# Altium schematic symbol library LAN8720.SchLib: 1 symbol
Pins are listed as number, name and electrical type; pins without a type are passive.

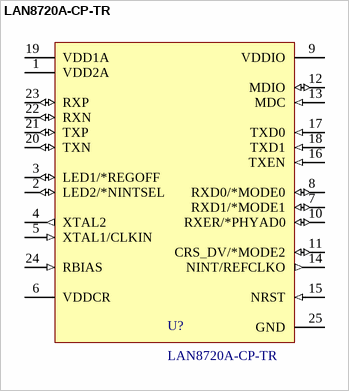
[diagram p0: symbol LAN8720A-CP-TR]

## LAN8720A-CP-TR
designator U?
IC ETH TXRX FULL 2/2 24SQFN; Manufacturer_Name: Microchip; Copyright: Copyright (C) 2026 Ultra Librarian. All rights reserved.; Manufacturer_Part_Number: LAN8720A-CP-TR; RefDes: RefDes; Type: Type
footprint QFN24-6X6_MC_MCH
pins: 1 VDD2A (power), 2 LED2/*NINTSEL (io), 3 LED1/*REGOFF (io), 4 XTAL2 (out), 5 XTAL1/CLKIN (in), 6 VDDCR (power), 7 RXD1/*MODE1 (io), 8 RXD0/*MODE0 (io), 9 VDDIO (power), 10 RXER/*PHYAD0 (io), 11 CRS_DV/*MODE2 (io), 12 MDIO (io), 13 MDC (in), 14 NINT/REFCLKO (out), 15 NRST (in), 16 TXEN (in), 17 TXD0 (in), 18 TXD1 (in), 19 VDD1A (power), 20 TXN (io), 21 TXP (io), 22 RXN (io), 23 RXP (io), 24 RBIAS (in), 25 GND